# Altium footprint library FSC-SOT-23-3.PcbLib: 1 footprints
Each footprint in its own frame and in the unit in brackets; x right, y up, seen from the top. Pads: shape width x height; smd on the part's side, far side on the other; paste and mask are expansions set on the pad; w line width, h text height; cw(c..) or ccw(c..) is an arc to the next point about the centre after c.
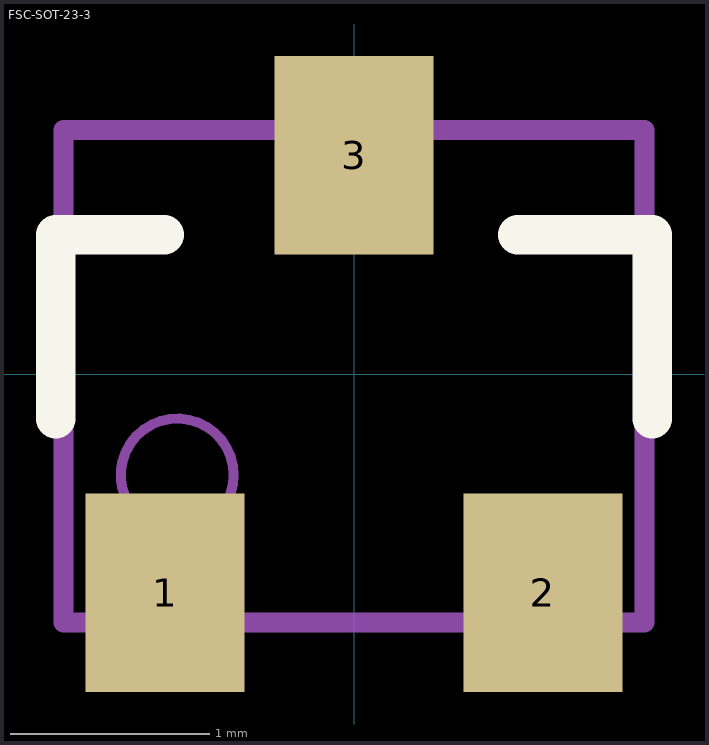
[diagram p0: the footprint, top view; thin cyan lines are the x and y axes]

## FSC-SOT-23-3 [mm] "SOT23, 3-Leads, Body 2.9x1.3mm, Pitch 0.95mm"
height 1.2
pads (3):
  rect 0.8x1 smd: 1(-0.95,-1.1) 2(0.95,-1.1) 3(0,1.1)
Top Overlay:
  lines w0.2: -1.5,-0.225 -1.5,0.7 -0.954,0.7 ; 0.824,0.7 1.5,0.7 1.5,-0.225
Mechanical 13:
  circle w0.05: c-0.889,-0.508 r0.284
  lines w0.1: -1.46,-1.25 -1.46,1.226 1.46,1.226 1.46,-1.25 -1.46,-1.25
3D body: height 1.03, standoff 0.01, extent -1.46,-1.25 1.46,1.226